# Altium schematic symbol library SCH - POWER - LINEAR VREG - TI LP5907-Q1-2P8DBV.SchLib: 1 symbol
Pins are listed as number, name and electrical type; pins without a type are passive.

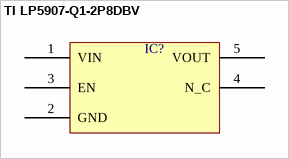
[diagram p0: symbol TI LP5907-Q1-2P8DBV]

## TI LP5907-Q1-2P8DBV
designator IC?  (value not drawn)
pins: 1 VIN, 2 GND, 3 EN, 4 N_C, 5 VOUT